# EAGLE library part 2CHAN_4INPUT_AND (library gen3)
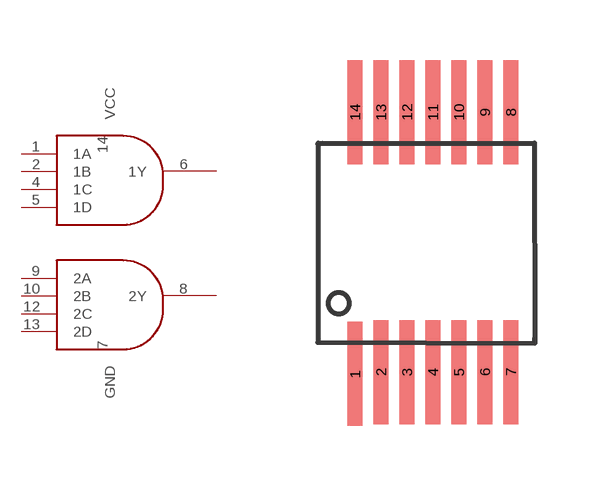
[diagram p9: symbol with the pads of TSSOP14; footprint TSSOP14]

Designator prefix -

## 2CHAN_4INPUT_AND  [TSSOP14]
1  1A
2  1B
4  1C
5  1D
6  1Y
7  GND
8  2Y
9  2A
10  2B
12  2C
13  2D
14  VCC

## Footprint TSSOP14 (pad centres in mm)
smd 0.38 x 2.6: 1 -1.95,-3.3; 2 -1.3,-3.25; 3 -0.65,-3.25; 4 0,-3.25; 5 0.65,-3.25; 6 1.3,-3.25; 7 1.95,-3.25; 8 1.95,3.25; 9 1.3,3.25; 10 0.65,3.25; 11 0,3.25; 12 -0.65,3.25; 13 -1.3,3.25; 14 -1.95,3.25